# Altium schematic symbol library PLS-6.Schlib: 1 symbol
Pins are listed as number, name and electrical type; pins without a type are passive.

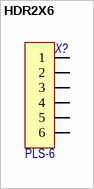
[diagram p0: symbol HDR2X6]

## HDR2X6
designator X?, comment Наименование: PLS-6  (hidden comment: Header 2X6)
Header, 12-Pin, Dual row; Потребление, Вт: 0,0; Назначение: Header, 12-Pin, Dual row
footprint PLS-6 (2.54mm PIN HEADER R/A)
pins: 1, 2, 3, 4, 5, 6